# Altium footprint library AMPHENOL_GSB3C3133DSYHR.PcbLib: 1 footprints
Each footprint in its own frame and in the unit in brackets; x right, y up, seen from the top. Pads: shape width x height; smd on the part's side, far side on the other; paste and mask are expansions set on the pad; w line width, h text height; cw(c..) or ccw(c..) is an arc to the next point about the centre after c.
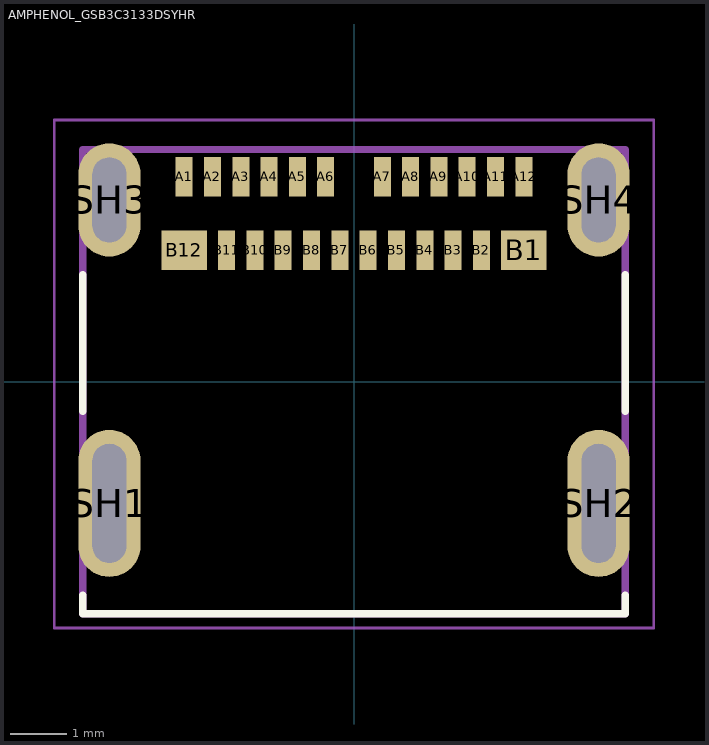
[diagram p0: the footprint, top view; thin cyan lines are the x and y axes]

## AMPHENOL_GSB3C3133DSYHR [mm]
height 3.34
pads (28):
  rect 0.3x0.7 smd: A1(-3,3.62) A2(-2.5,3.62) A3(-2,3.62) A4(-1.5,3.62) A5(-1,3.62) A6(-0.5,3.62) A7(0.5,3.62) A8(1,3.62) A9(1.5,3.62) A10(2,3.62) A11(2.5,3.62) A12(3,3.62) B2(2.25,2.32) B3(1.75,2.32) B4(1.25,2.32) B5(0.75,2.32) B6(0.25,2.32) B7(-0.25,2.32) B8(-0.75,2.32) B9(-1.25,2.32) B10(-1.75,2.32) B11(-2.25,2.32)
  rect 0.8x0.7 smd: B1(3,2.32) B12(-3,2.32)
  oval 1.1x2.6 hole 0.6 slot 2.1 at 90 deg: SH1(-4.32,-2.15) SH2(4.32,-2.15)
  oval 1.1x2 hole 0.6 slot 1.5 at 90 deg: SH3(-4.32,3.21) SH4(4.32,3.21)
Top Overlay:
  lines w0.127: -4.79,-3.77 -4.79,-4.1 4.79,-4.1 4.79,-3.77 ; -4.79,-0.53 -4.79,1.89 ; 4.79,-0.53 4.79,1.89
Mechanical 13:
  lines w0.127: -4.79,-4.1 -4.79,4.1 4.79,4.1 4.79,-4.1 -4.79,-4.1
Mechanical 15:
  lines w0.05: -5.295,-4.35 -5.295,4.62 5.295,4.62 5.295,-4.35 -5.295,-4.35
3D body "step_temp.STEP": height 8, standoff -0.2, extent -4.79,-1.58 4.79,2.38